# EAGLE library part IRL6372PBF (library irf (2))
N-Channel Application-Specific MOSFETs Source: http://www.irf.com/product-info/datasheets/data/irl6372pbf.pdf
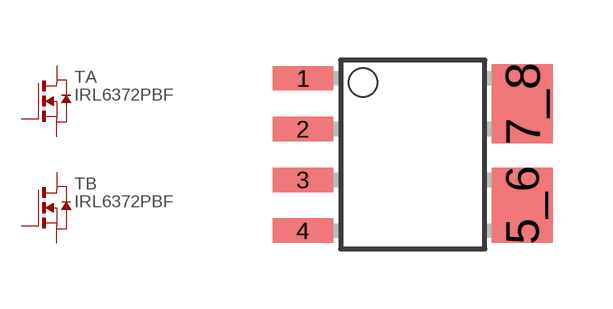
[diagram p0: symbol with the pads of SO-8-DUAL; footprint SO-8-DUAL]

Designator prefix T; gates A=N_MOSFET B=N_MOSFET

## IRL6372PBF  [SO-8-DUAL]
1  A:S  pas
2  A:G  pas
3  B:S  pas
4  B:G  pas
5_6  B:D  pas
7_8  A:D  pas

## Footprint SO-8-DUAL (pad centres in mm)
smd 1.524 x 0.61: 1 -2.743,1.905; 2 -2.743,0.635; 3 -2.743,-0.635; 4 -2.743,-1.905
smd 1.524 x 1.88: 5_6 2.743,-1.27
smd 1.524 x 1.981: 7_8 2.743,1.27